# EAGLE library part 1725724 (library Amplifier_Parts)
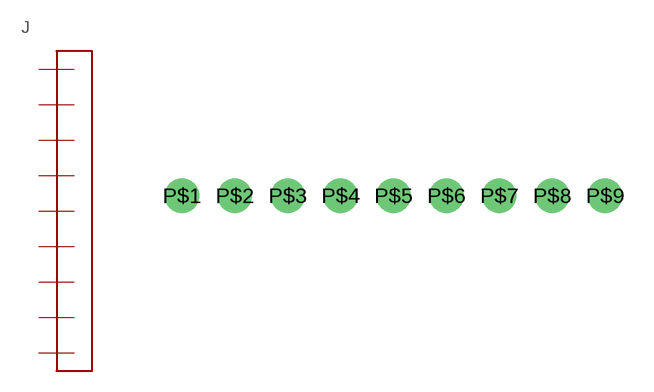
[diagram p8: symbol with the pads of 1725724; footprint 1725724]

Designator prefix J

## 1725724  [1725724]
P$1  1  pas
P$2  2  pas
P$3  3  pas
P$4  4  pas
P$5  5  pas
P$6  6  pas
P$7  7  pas
P$8  8  pas
P$9  9  pas

## Footprint 1725724 (pad centres in mm)
drill 1.1: P$1 -12.7,0; P$2 -10.16,0; P$3 -7.62,0; P$4 -5.08,0; P$5 -2.54,0; P$6 0,0; P$7 2.54,0; P$8 5.08,0; P$9 7.62,0